# EAGLE library part CS47048C (library cirrus)
Audio SOC 32-bit Audio DSP Family LQFP100
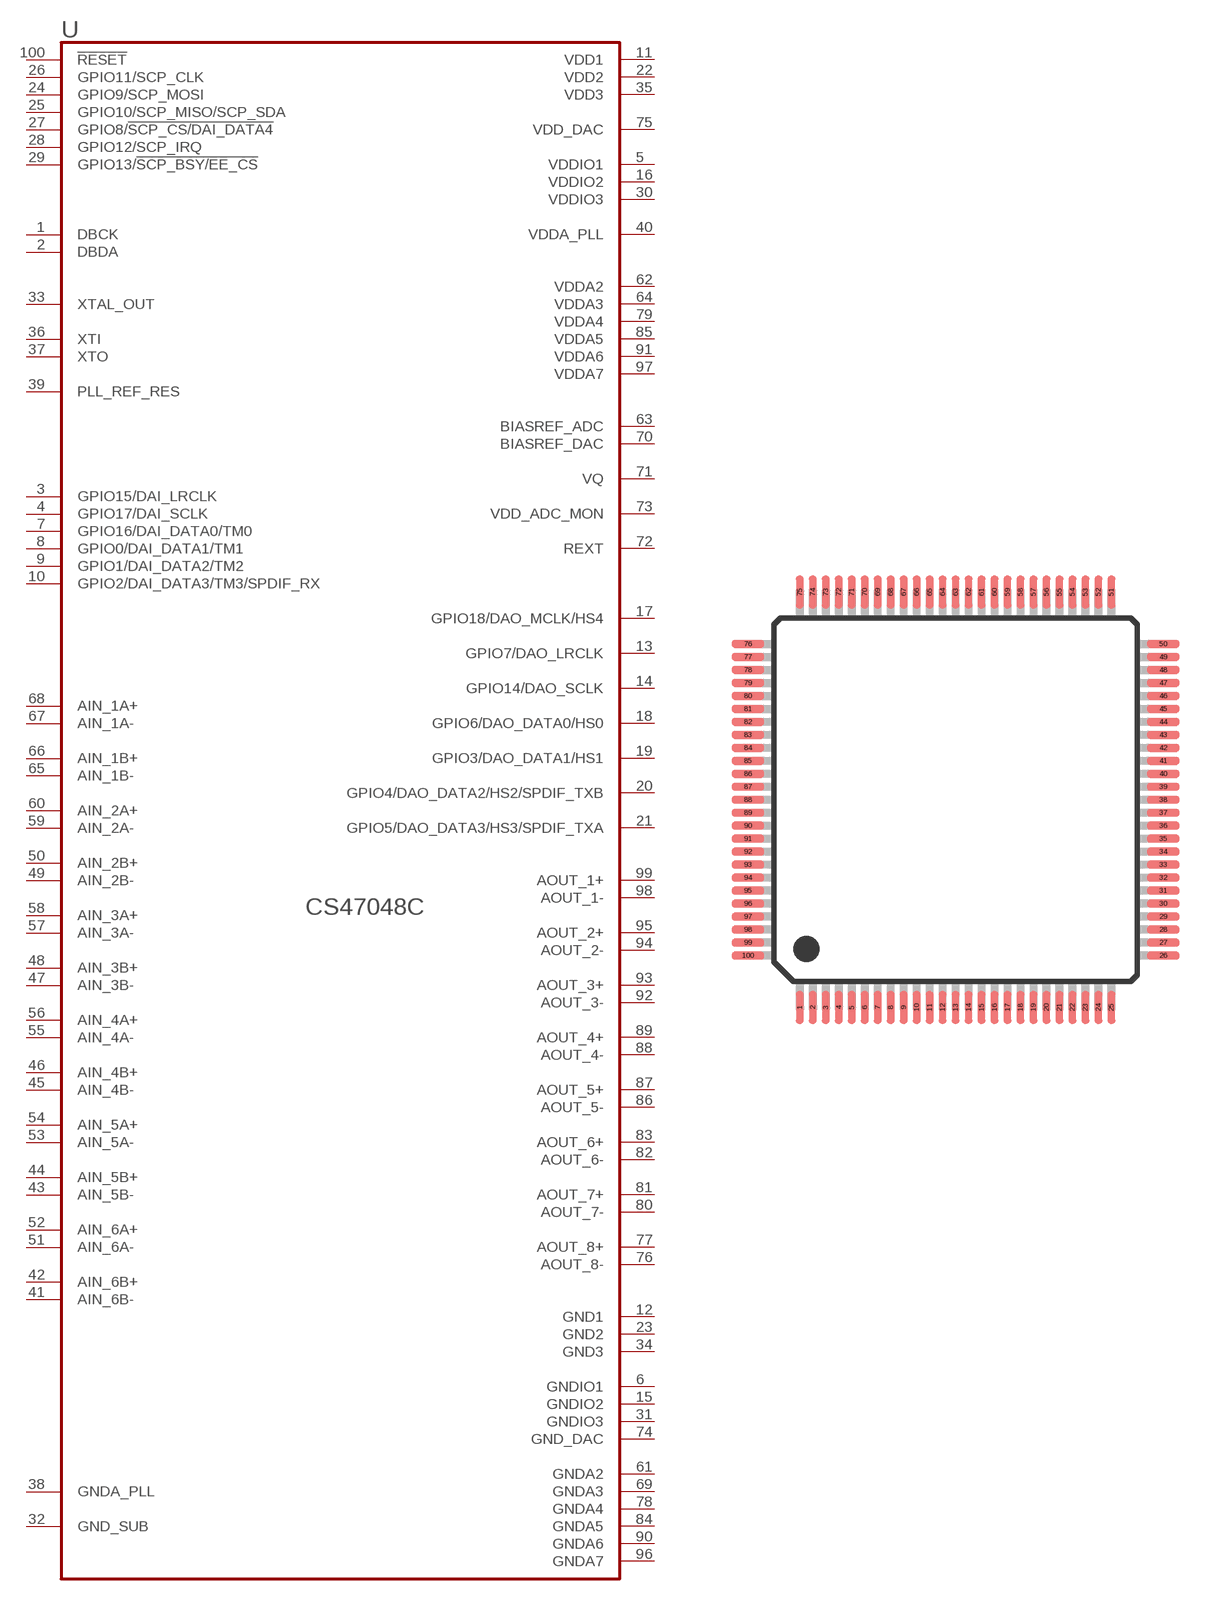
[diagram p17: symbol with the pads of LQFP100-EP; footprint LQFP100-EP]

Designator prefix U

## CS47048C  [LQFP100-EP]
1  DBCK
2  DBDA
3  GPIO15/DAI_LRCLK
4  GPIO17/DAI_SCLK
5  VDDIO1  pwr
6  GNDIO1  pwr
7  GPIO16/DAI_DATA0/TM0
8  GPIO0/DAI_DATA1/TM1
9  GPIO1/DAI_DATA2/TM2
10  GPIO2/DAI_DATA3/TM3/SPDIF_RX
11  VDD1  pwr
12  GND1  pwr
13  GPIO7/DAO_LRCLK
14  GPIO14/DAO_SCLK
15  GNDIO2  pwr
16  VDDIO2  pwr
17  GPIO18/DAO_MCLK/HS4
18  GPIO6/DAO_DATA0/HS0
19  GPIO3/DAO_DATA1/HS1
20  GPIO4/DAO_DATA2/HS2/SPDIF_TXB
21  GPIO5/DAO_DATA3/HS3/SPDIF_TXA
22  VDD2  pwr
23  GND2  pwr
24  GPIO9/SCP_MOSI
25  GPIO10/SCP_MISO/SCP_SDA
26  GPIO11/SCP_CLK
27  GPIO8/!SCP_CS/DAI_DATA4
28  GPIO12/SCP_IRQ
29  GPIO13/!SCP_BSY/EE_CS
30  VDDIO3  pwr
31  GNDIO3  pwr
32  GND_SUB  pwr
33  XTAL_OUT
34  GND3  pwr
35  VDD3  pwr
36  XTI
37  XTO
38  GNDA_PLL  pwr
39  PLL_REF_RES
40  VDDA_PLL  pwr
41  AIN_6B-
42  AIN_6B+
43  AIN_5B-
44  AIN_5B+
45  AIN_4B-
46  AIN_4B+
47  AIN_3B-
48  AIN_3B+
49  AIN_2B-
50  AIN_2B+
51  AIN_6A-
52  AIN_6A+
53  AIN_5A-
54  AIN_5A+
55  AIN_4A-
56  AIN_4A+
57  AIN_3A-
58  AIN_3A+
59  AIN_2A-
60  AIN_2A+
61  GNDA2  pwr
62  VDDA2  pwr
63  BIASREF_ADC
64  VDDA3  pwr
65  AIN_1B-
66  AIN_1B+
67  AIN_1A-
68  AIN_1A+
69  GNDA3  pwr
70  BIASREF_DAC
71  VQ
72  REXT
73  VDD_ADC_MON
74  GND_DAC  pwr
75  VDD_DAC  pwr
76  AOUT_8-
77  AOUT_8+
78  GNDA4  pwr
79  VDDA4  pwr
80  AOUT_7-
81  AOUT_7+
82  AOUT_6-
83  AOUT_6+
84  GNDA5  pwr
85  VDDA5  pwr
86  AOUT_5-
87  AOUT_5+
88  AOUT_4-
89  AOUT_4+
90  GNDA6  pwr
91  VDDA6  pwr
92  AOUT_3-
93  AOUT_3+
94  AOUT_2-
95  AOUT_2+
96  GNDA7  pwr
97  VDDA7  pwr
98  AOUT_1-
99  AOUT_1+
100  !RESET

## Footprint LQFP100-EP (pad centres in mm)
Low-profile Quad Flat Package (Exposed Pad)
smd 0.3 x 1.25: 1 -6,-8; 2 -5.5,-8; 3 -5,-8; 4 -4.5,-8; 5 -4,-8; 6 -3.5,-8; 7 -3,-8; 8 -2.5,-8; 9 -2,-8; 10 -1.5,-8; 11 -1,-8; 12 -0.5,-8; 13 0,-8; 14 0.5,-8; 15 1,-8; 16 1.5,-8; 17 2,-8; 18 2.5,-8; 19 3,-8; 20 3.5,-8; 21 4,-8; 22 4.5,-8; 23 5,-8; 24 5.5,-8; 25 6,-8; 51 6,8; 52 5.5,8; 53 5,8; 54 4.5,8; 55 4,8; 56 3.5,8; 57 3,8; 58 2.5,8; 59 2,8; 60 1.5,8; 61 1,8; 62 0.5,8; 63 0,8; 64 -0.5,8; 65 -1,8; 66 -1.5,8; 67 -2,8; 68 -2.5,8; 69 -3,8; 70 -3.5,8; 71 -4,8; 72 -4.5,8; 73 -5,8; 74 -5.5,8; 75 -6,8
smd 1.25 x 0.3: 26 8,-6; 27 8,-5.5; 28 8,-5; 29 8,-4.5; 30 8,-4; 31 8,-3.5; 32 8,-3; 33 8,-2.5; 34 8,-2; 35 8,-1.5; 36 8,-1; 37 8,-0.5; 38 8,0; 39 8,0.5; 40 8,1; 41 8,1.5; 42 8,2; 43 8,2.5; 44 8,3; 45 8,3.5; 46 8,4; 47 8,4.5; 48 8,5; 49 8,5.5; 50 8,6; 76 -8,6; 77 -8,5.5; 78 -8,5; 79 -8,4.5; 80 -8,4; 81 -8,3.5; 82 -8,3; 83 -8,2.5; 84 -8,2; 85 -8,1.5; 86 -8,1; 87 -8,0.5; 88 -8,0; 89 -8,-0.5; 90 -8,-1; 91 -8,-1.5; 92 -8,-2; 93 -8,-2.5; 94 -8,-3; 95 -8,-3.5; 96 -8,-4; 97 -8,-4.5; 98 -8,-5; 99 -8,-5.5; 100 -8,-6